# Altium schematic symbol library ClimaSens-Lib.SchLib: 8 symbols
Pins are listed as number, name and electrical type; pins without a type are passive.

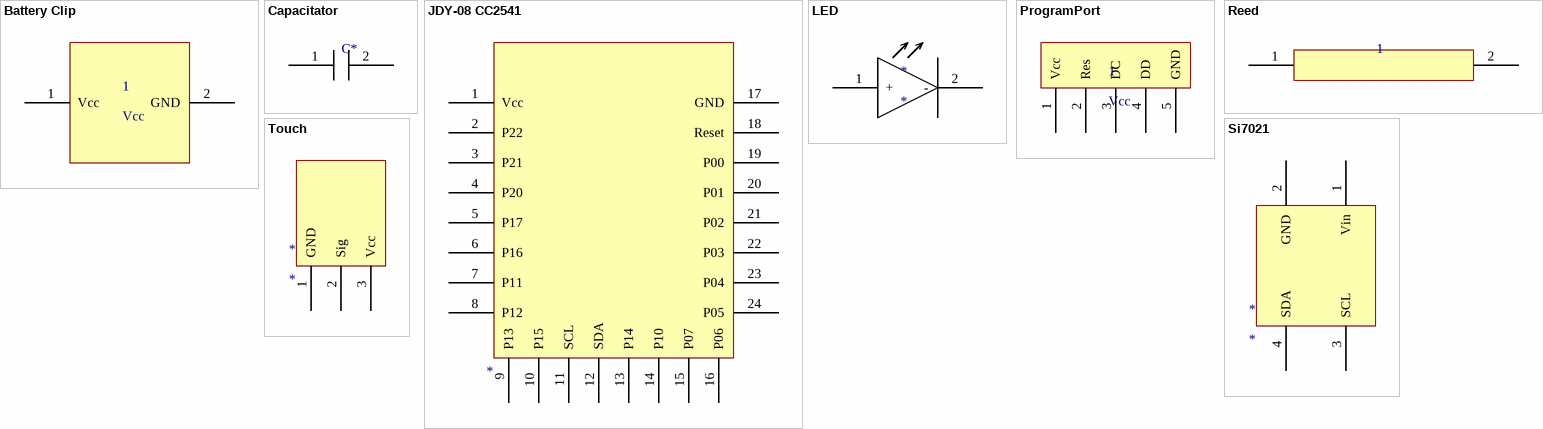
[diagram p0: symbols Battery Clip to Touch]

## Battery Clip
designator 1, comment Vcc
footprint Battery-Clip
pins: 1 Vcc, 2 GND

## Capacitator
designator C*
pins: 1, 2

## JDY-08 CC2541
designator ?
footprint JDY-08 CC2541
pins: 1 Vcc, 2 P22, 3 P21, 4 P20, 5 P17, 6 P16, 7 P11, 8 P12, 9 P13, 10 P15, 11 SCL, 12 SDA, 13 P14, 14 P10, 15 P07, 16 P06, 17 GND, 18 Reset, 19 P00, 20 P01, 21 P02, 22 P03, 23 P04, 24 P05

## LED
designator *
footprint LED 3mm
pins: 1 +, 2 -

## ProgramPort
designator 1, comment Vcc
footprint ProgramPort
pins: 1 Vcc, 2 Res, 3 DC, 4 DD, 5 GND

## Reed
designator 1
footprint Reed
pins: 1, 2

## Si7021
designator *
footprint Si7021
pins: 1 Vin, 2 GND, 3 SCL, 4 SDA

## Touch
designator *
footprint Touch
pins: 1 GND, 2 Sig, 3 Vcc